# EAGLE library part 24LC515-I/SM (library Microchip_By_element14_Batch_1)
IC, EEPROM, 512KBIT SERIAL 400KHZ
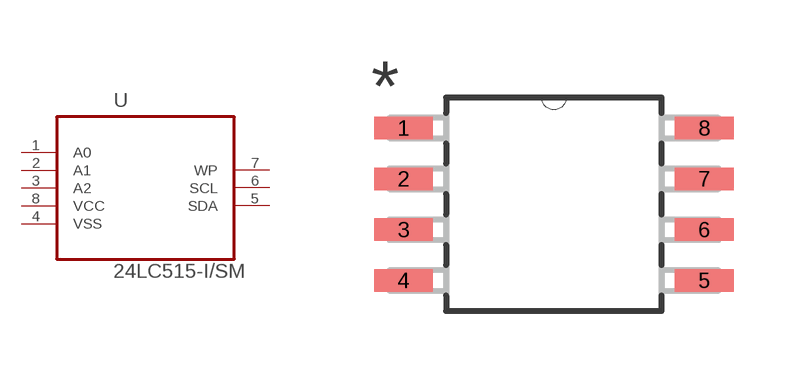
[diagram p91: symbol with the pads of SOIC127P794X203-8N; footprint SOIC127P794X203-8N]

Designator prefix U

## 24LC515-I/SM (MPN: 24LC515-I/SM; OC_FARNELL: 9758046; OC_NEWARK: 62K0583; PACKAGE: SOIJ8; SUPPLIER: Microchip)  [SOIC127P794X203-8N]
1  A0  in
2  A1  in
3  A2  in
4  VSS  pas
5  SDA
6  SCL  in
7  WP  in
8  VCC  pwr

## Footprint SOIC127P794X203-8N (pad centres in mm)
smd 1.473 x 0.559: 1 -3.759,1.905; 2 -3.759,0.635; 3 -3.759,-0.635; 4 -3.759,-1.905; 5 3.759,-1.905; 6 3.759,-0.635; 7 3.759,0.635; 8 3.759,1.905